# Altium footprint library inductor-neosid.PCBLIB: 99 footprints (part 7 of 7)
Each footprint in its own frame and in the unit in brackets; x right, y up, seen from the top. Pads: shape width x height; smd on the part's side, far side on the other; paste and mask are expansions set on the pad; w line width, h text height; cw(c..) or ccw(c..) is an arc to the next point about the centre after c.
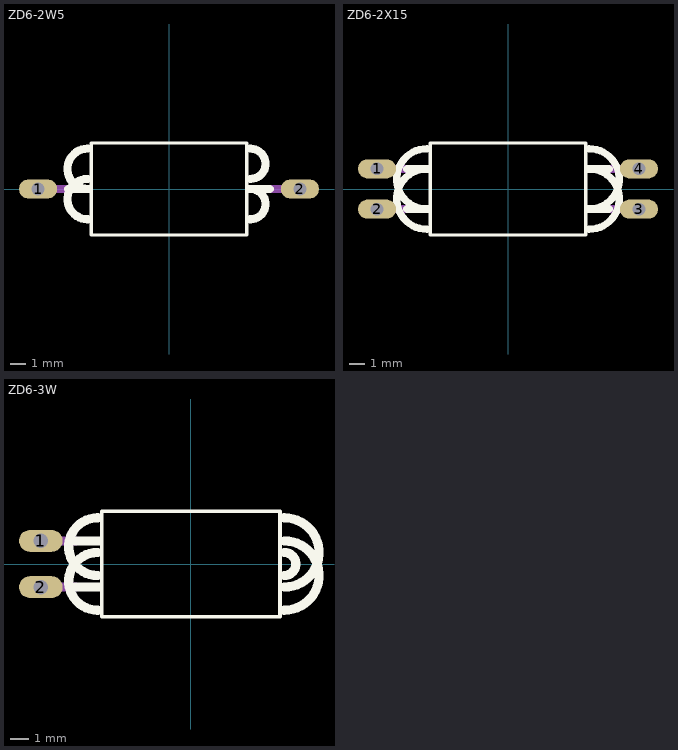
[diagram p6: the footprints below, top view; thin cyan lines are the x and y axes]

## ZD6-2W5 [mil]
pads (2):
  oval 94.5x47.25 hole 31.5: 1(-325,0) 2(325,0)
Top Overlay:
  lines w8: -192.91,-114.17 192.91,-114.17 192.91,114.17 -192.91,114.17 -192.91,-114.17
  lines w20: -250,0 -202.13,0 ; -202.13,-75 cw(c-202.13,-25) -202.13,25 ; -202.13,100 ccw(c-202.13,50) -202.13,0 ; -200,0 -202.13,0 ; 200,0 202.13,0 ; 202.13,-75 ccw(c202.13,-37.5) 202.13,0 ; 202.13,25 ccw(c202.13,62.5) 202.13,100 ; 250,0 202.13,0
Mechanical 16:
  lines w20: -325,0 -250,0 ; 250,0 325,0

## ZD6-2X15 [mil]
pads (4):
  oval 94.5x47.25 hole 31.5: 1(-325,50) 2(-325,-50) 3(325,-50) 4(325,50)
Top Overlay:
  lines w8: -192.91,-114.17 192.91,-114.17 192.91,114.17 -192.91,114.17 -192.91,-114.17
  lines w18: -201.13,-100 cw(c-201.13,-25) -201.13,50 ; -201.13,-50 cw(c-201.13,25) -201.13,100 ; 201.13,-100 ccw(c201.13,-25) 201.13,50 ; 201.13,-50 ccw(c201.13,25) 201.13,100
  lines w20: -250,-50 -201.13,-50 -200,-50 ; -250,50 -201.13,50 -200,50 ; 200,-50 201.13,-50 250,-50 ; 200,50 201.13,50 250,50
Mechanical 16:
  lines w20: -325,-50 -250,-50 ; -325,50 -250,50 ; 250,-50 325,-50 ; 250,50 325,50

## ZD6-3W [mil]
pads (2):
  oval 94.5x47.25 hole 31.5: 1(-325,50) 2(-325,-50)
Top Overlay:
  lines w8: -192.91,-114.17 192.91,-114.17 192.91,114.17 -192.91,114.17 -192.91,-114.17
  lines w20: -250,-50 -200,-50 ; -250,50 -200,50 ; -202.13,-100 cw(c-202.13,-37.5) -202.13,25 ; -202.13,-25 cw(c-202.13,37.5) -202.13,100 ; 202.13,-100 ccw(c202.13,-25) 202.13,50 ; 202.13,-50 ccw(c202.13,25) 202.13,100 ; 202.13,-25 ccw(c202.13,0) 202.13,25
Mechanical 16:
  lines w20: -325,-50 -250,-50 ; -325,50 -250,50